# EAGLE library part LOGIC-4017 (library tidyeagle)
4017 Decade Counter Datasheet: Texas Instruments CD4017B <http://www.ti.com/lit/ds/symlink/cd4017b.pdf> Application Notes: Supply: 3V - 18V Pull ENABLE low to enable. Push RESET high to reset to zero. CARRY output completes one cycle for every 10 clock input cycles.
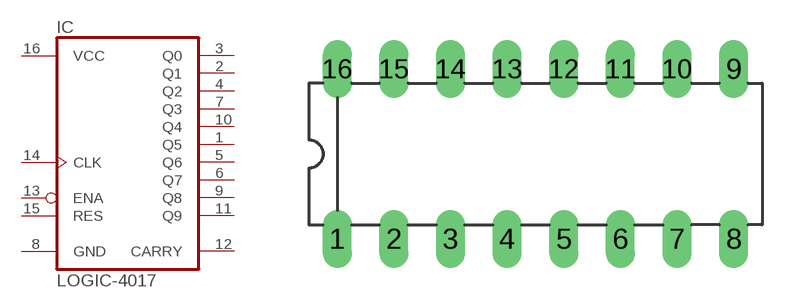
[diagram p21: symbol with the pads of DIL16-3; footprint DIL16-3]

Designator prefix IC

## LOGIC-4017-DIL16-3  [DIL16-3]
1  Q5  out
2  Q1  out
3  Q0  out
4  Q2  out
5  Q6  out
6  Q7  out
7  Q3  out
8  GND  sup
9  Q8  out
10  Q4  out
11  Q9  out
12  CARRY  out
13  ENA  in
14  CLK  in
15  RES  in
16  VCC  sup

## Footprint DIL16-3 (pad centres in mm)
drill 0.8 long: 1 -8.89,-3.81; 2 -6.35,-3.81; 3 -3.81,-3.81; 4 -1.27,-3.81; 5 1.27,-3.81; 6 3.81,-3.81; 7 6.35,-3.81; 8 8.89,-3.81; 9 8.89,3.81; 10 6.35,3.81; 11 3.81,3.81; 12 1.27,3.81; 13 -1.27,3.81; 14 -3.81,3.81; 15 -6.35,3.81; 16 -8.89,3.81